# Altium footprint library WR-TBL_Rising Cage Clamp_10.16mm.PcbLib: 81 footprints (part 6 of 6)
Each footprint in its own frame and in the unit in brackets; x right, y up, seen from the top. Pads: shape width x height; smd on the part's side, far side on the other; paste and mask are expansions set on the pad; w line width, h text height; cw(c..) or ccw(c..) is an arc to the next point about the centre after c.
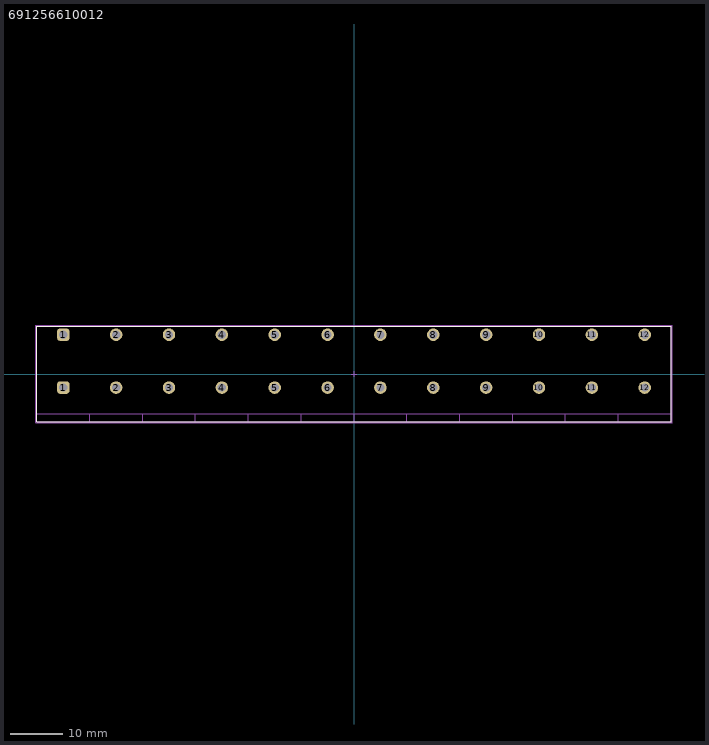
[diagram p5: the footprint, top view; thin cyan lines are the x and y axes]

## 691256610012 [mm] "10.16mm Horizontal Cable Entry with Rising Cage Clamp, 12p"
height 29.3
pads (24):
  rrect50% 2.4x2.4 hole 1.6: 1(-55.88,-2.61) 1(-55.88,7.55)
  round 2.4 hole 1.6: 2(-45.72,-2.61) 2(-45.72,7.55) 3(-35.56,-2.61) 3(-35.56,7.55) 4(-25.4,-2.61) 4(-25.4,7.55) 5(-15.24,-2.61) 5(-15.24,7.55) 6(-5.08,-2.61) 6(-5.08,7.55) 7(5.08,-2.61) 7(5.08,7.55) 8(15.24,-2.61) 8(15.24,7.55) 9(25.4,-2.61) 9(25.4,7.55) 10(35.56,-2.61) 10(35.56,7.55) 11(45.72,-2.61) 11(45.72,7.55) 12(55.88,-2.61) 12(55.88,7.55)
Top Overlay:
  lines w0.2: -60.96,-9.15 60.96,-9.15 60.96,9.15 -60.96,9.15 -60.96,-9.15
Top Assembly:
  lines w0.1: -60.96,-7.65 60.96,-7.65 ; -50.8,-9.15 -50.8,-7.65 ; -40.64,-9.15 -40.64,-7.65 ; -30.48,-9.15 -30.48,-7.65 ; -20.32,-9.15 -20.32,-7.65 ; -10.16,-9.15 -10.16,-7.65 ; 0,-9.15 0,-7.65 ; 10.16,-9.15 10.16,-7.65 ; 20.32,-9.15 20.32,-7.65 ; 30.48,-9.15 30.48,-7.65 ; 40.64,-9.15 40.64,-7.65 ; 50.8,-9.15 50.8,-7.65 ; -60.96,-9.15 -60.96,9.15 60.96,9.15 60.96,-9.15 -60.96,-9.15
Top Designator:
  text ".Designator" at -3.647,-0.357 h1
Top 3D Body:
  lines w0.1: -60.96,-7.65 60.96,-7.65 ; -50.8,-9.15 -50.8,-7.65 ; -40.64,-9.15 -40.64,-7.65 ; -30.48,-9.15 -30.48,-7.65 ; -20.32,-9.15 -20.32,-7.65 ; -10.16,-9.15 -10.16,-7.65 ; 0,-9.15 0,-7.65 ; 10.16,-9.15 10.16,-7.65 ; 20.32,-9.15 20.32,-7.65 ; 30.48,-9.15 30.48,-7.65 ; 40.64,-9.15 40.64,-7.65 ; 50.8,-9.15 50.8,-7.65 ; -60.96,-9.15 60.96,-9.15 60.96,9.15 -60.96,9.15 -60.96,-9.15
Top Courtyard:
  lines w0.05: -61.16,-9.35 61.16,-9.35 61.16,9.35 -61.16,9.35 -61.16,-9.35
Top Component Center:
  lines w0.1: -0.5,0 0.5,0 ; 0,-0.5 0,0.5
3D body "691256610012.stp": height 29.33, standoff -4.97, extent -60.96,-9.15 60.96,9.15